# Altium footprint library 581-01-30-011.PcbLib: 1 footprints
Each footprint in its own frame and in the unit in brackets; x right, y up, seen from the top. Pads: shape width x height; smd on the part's side, far side on the other; paste and mask are expansions set on the pad; w line width, h text height; cw(c..) or ccw(c..) is an arc to the next point about the centre after c.
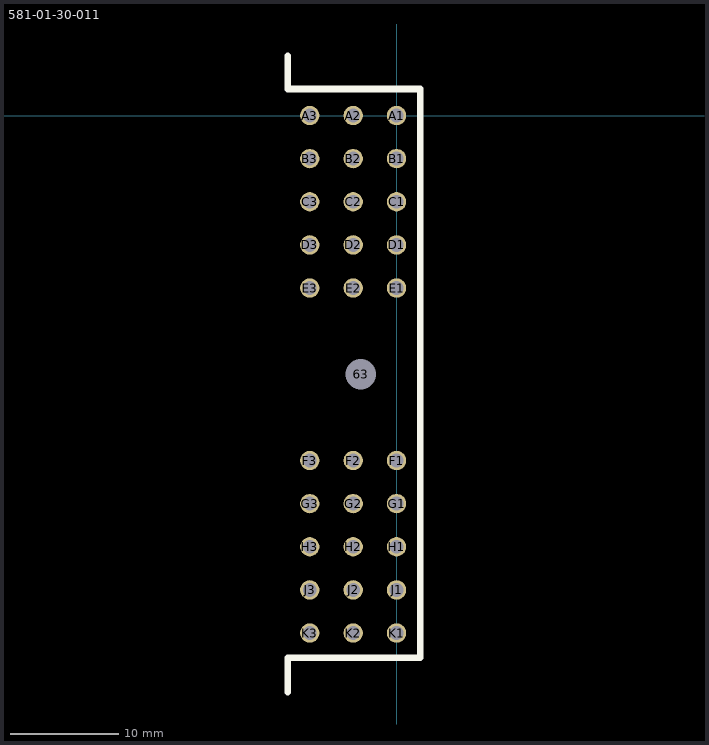
[diagram p0: the footprint, top view; thin cyan lines are the x and y axes]

## 581-01-30-011 [mil] "Cinch 30 Pin Connector No Ferrite"
height 285
pads (31):
  round 70 hole 110: 63(-129,-936)
  round 70 hole 50: A1(0,0) A2(-157,0) A3(-314,0) B1(0,-156) B2(-157,-156) B3(-314,-156) C1(0,-312) C2(-157,-312) C3(-314,-312) D1(0,-468) D2(-157,-468) D3(-314,-468) E1(0,-624) E2(-157,-624) E3(-314,-624) F1(0,-1248) F2(-157,-1248) F3(-314,-1248) G1(0,-1404) G2(-157,-1404) G3(-314,-1404) H1(0,-1560) H2(-157,-1560) H3(-314,-1560) J1(0,-1716) J2(-157,-1716) J3(-314,-1716) K1(0,-1872) K2(-157,-1872) K3(-314,-1872)
TopOverlay:
  lines w24: -394,-2086 -394,-1964 ; -394,-1962 86,-1962 86,96 -394,96 -394,216
3D body: height 1277, standoff -187, extent -1450,-2313 100,443